# Altium footprint library LYz.PcbLib: 52 footprints (part 2 of 4)
Each footprint in its own frame and in the unit in brackets; x right, y up, seen from the top. Pads: shape width x height; smd on the part's side, far side on the other; paste and mask are expansions set on the pad; w line width, h text height; cw(c..) or ccw(c..) is an arc to the next point about the centre after c.
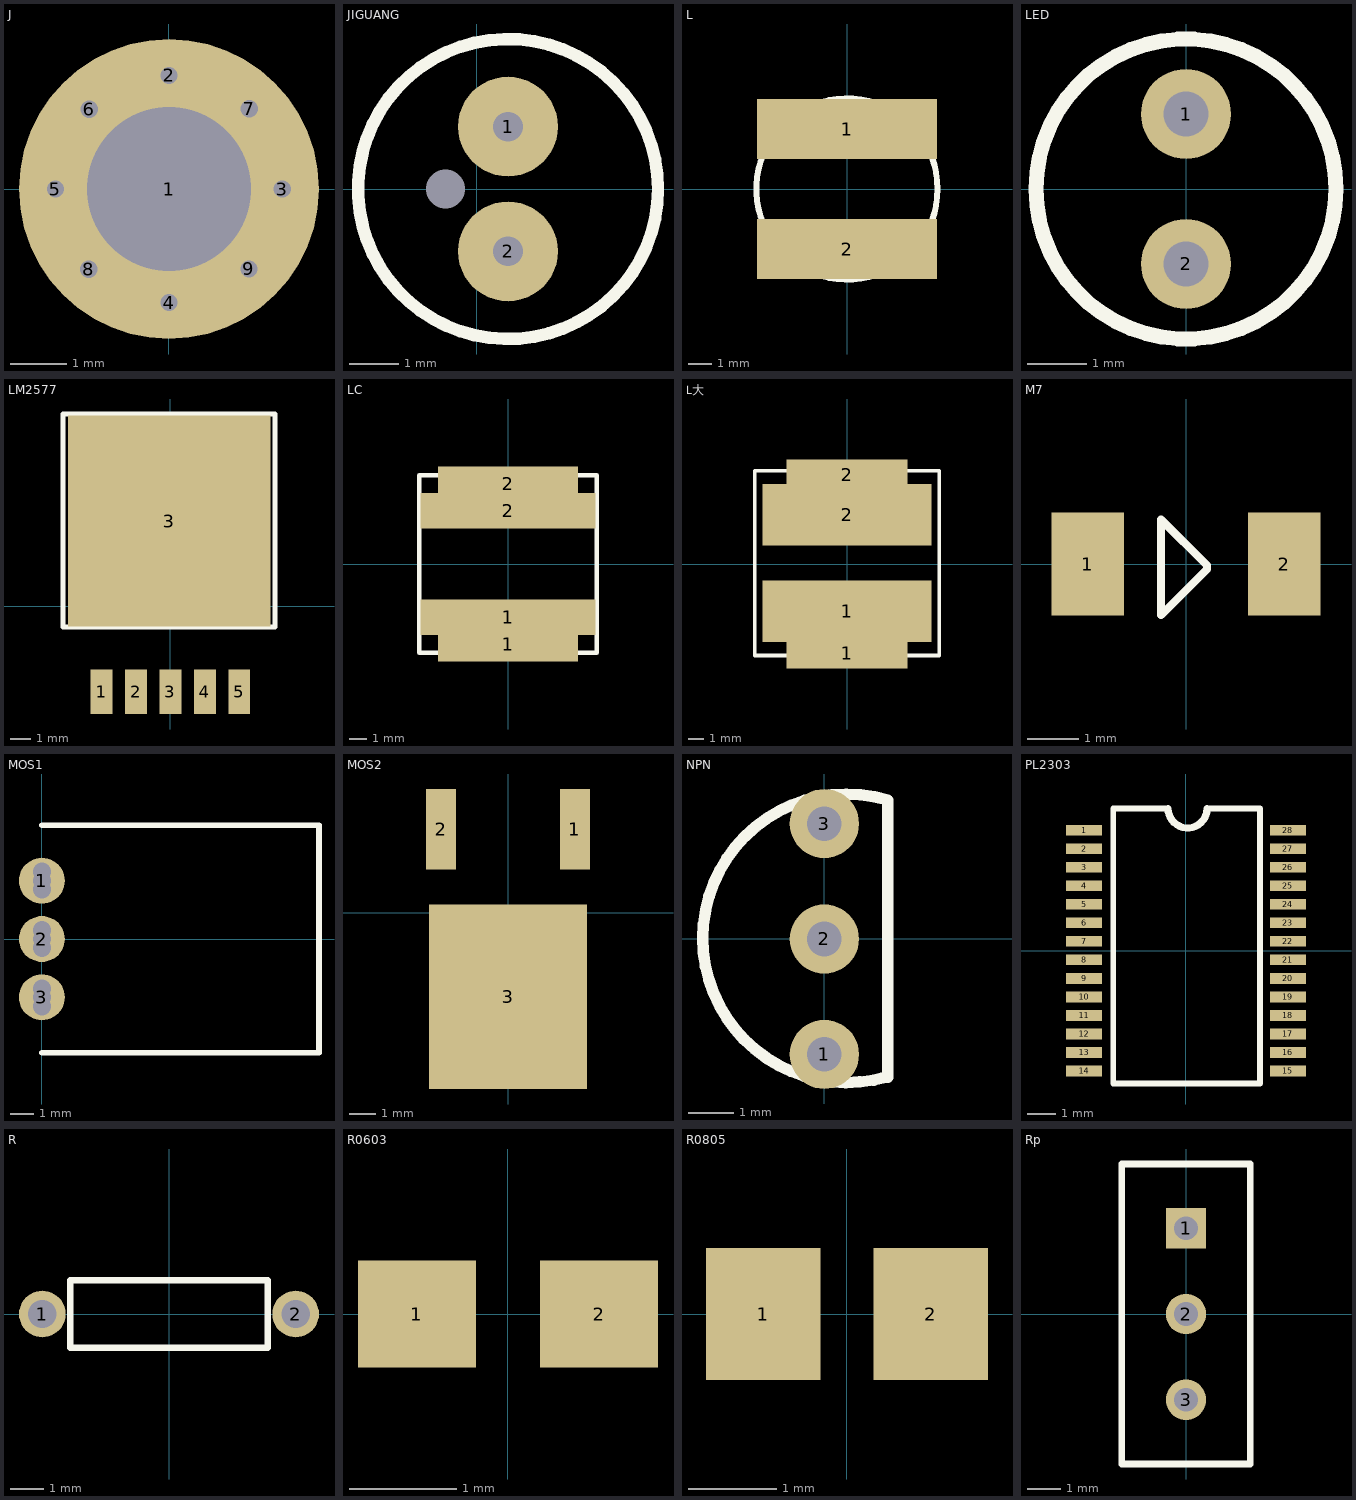
[diagram p1: the footprints below, top view; thin cyan lines are the x and y axes]

## J [mil]
pads (9):
  round 208.66 hole 114.17: 1(0.13,0)
  round 24 hole 12: 2(0.13,79) 3(78.87,0) 4(0.13,-79) 5(-78.87,0) 6(-55.37,55.5) 7(55.95,55.82) 8(-55.62,-55.75) 9(55.77,-55.64)

## JIGUANG [mil]
pads (3):
  round 0 hole 31.5: 0(-25,0)
  round 80 hole 23.62: 1(25,50) 2(25,-50)
Top Overlay:
  circle w10: c25,0 r120.1

## L [mil]
pads (2):
  rect 300x100 smd: 1(0,100) 2(0,-100)
Top Overlay:
  circle w10: c0,0 r151

## LED [mil]
pads (2):
  round 60 hole 30: 1(0,50) 2(0,-50)
Top Overlay:
  circle w10: c0,0 r100

## LM2577 [mm]
pads (6):
  rect 1.07x2.2 smd: 1(-3.4,-4.21) 2(-1.7,-4.21) 3(0,-4.21) 4(1.7,-4.21) 5(3.4,-4.21)
  rect 10x10.4 smd: 3(-0.06,4.21)
Top Overlay:
  lines w0.254: -5.305,-1.01 -5.305,9.49 5.16,9.49 5.16,-1.01 -5.305,-1.01

## LС [mil]
pads (4):
  rect 314.96x78.74 smd: 1(0,-180) 2(0,180)
  rect 393.7x80 smd: 1(0,-120) 2(0,120)
Top Overlay:
  lines w10: -200,-200 200,-200 200,200 -200,200 -200,-200

## L大 [mil]
pads (4):
  rect 314.96x78.74 smd: 1(0,-232.5) 2(0,232.5)
  rect 440x160 smd: 1(0,-122.5) 2(0,127.5)
Top Overlay:
  lines w10: -240,-237.5 240,-237.5 240,242.5 -240,242.5 -240,-237.5

## M7 [mm]
pads (2):
  rect 1.4x2 smd: 1(-1.905,0) 2(1.905,0)
Top Overlay:
  lines w0.152: -0.483,-0.991 0.406,-0.102 0.406,-0.025 -0.483,0.864 -0.483,-0.991

## MOS1 [mm]
pads (9):
  round 0 hole 0.8: 1(0,2.159) 1(0,2.921) 2(0,-0.381) 2(0,0.381) 3(0,-2.921) 3(0,-2.159)
  round 2 hole 0.8: 1(0,2.54) 2(0,0) 3(0,-2.54)
Top Overlay:
  lines w0.254: 0,-4.953 12.065,-4.953 12.065,4.953 0,4.953

## MOS2 [mil]
pads (3):
  rect 45x120 smd: 1(100,125) 2(-100,125)
  rect 236.22x275.59 smd: 3(0,-125)

## NPN [mil]
pads (3):
  round 60 hole 30: 1(0,-100) 2(0,0) 3(0,100)
Top Overlay:
  lines w10: 54.81,-119.37 cw(c19.66,0.59) 55.13,120.45 ; 55,-120 55,120

## PL2303 [mm]
pads (28):
  rect 1.27x0.381 smd: 1(-3.575,4.225) 2(-3.575,3.575) 3(-3.575,2.925) 4(-3.575,2.275) 5(-3.575,1.625) 6(-3.575,0.975) 7(-3.575,0.325) 8(-3.575,-0.325) 9(-3.575,-0.975) 10(-3.575,-1.625) 11(-3.575,-2.275) 12(-3.575,-2.925) 13(-3.575,-3.575) 14(-3.575,-4.225) 15(3.575,-4.225) 16(3.575,-3.575) 17(3.575,-2.925) 18(3.575,-2.275) 19(3.575,-1.625) 20(3.575,-0.975) 21(3.575,-0.325) 22(3.575,0.325) 23(3.575,0.975) 24(3.575,1.625) 25(3.575,2.275) 26(3.575,2.925) 27(3.575,3.575) 28(3.575,4.225)
Top Overlay:
  lines w0.2: -0.629,4.987 -2.559,4.987 -2.559,-4.665 2.597,-4.665 2.597,4.987 0.739,4.987
  lines w0.254: -0.629,4.987 ccw(c0.055,4.987) 0.739,4.987

## R [mm]
pads (2):
  round 1.4 hole 0.85: 1(-3.81,0) 2(3.81,0)
Top Overlay:
  lines w0.2: -2.972,-1.016 -2.972,1.016 2.972,1.016 2.972,-1.016 -2.972,-1.016

## R0603 [mm] "Chip Capacitor; Body 1.6 x 0.8 mm (LxW typ)"
height 1.35
pads (2):
  rect 1.1x1 smd: 1(-0.85,0) 2(0.85,0)

## R0805 [mm]
pads (2):
  rect 1.3x1.5 smd: 1(-0.95,0) 2(0.95,0)

## Rp [mm]
pads (3):
  rect 1.2x1.2 hole 0.7: 1(0,2.54)
  round 1.2 hole 0.7: 2(0,0) 3(0,-2.54)
Top Overlay:
  lines w0.2: -1.905,-4.445 -1.905,4.445 1.905,4.445 1.905,-4.445 0.127,-4.445 -1.905,-4.445